# EAGLE library part SFTN01M-05N (library SFTN01M-05N)
Isolated DC/DC Converters - SMD 1W 12Vin 5Vout 20-200mA SMT Unregulated Source: Datasheet <https://www.meanwell.com/webapp/product/search.aspx?prod=SFTN01-N>
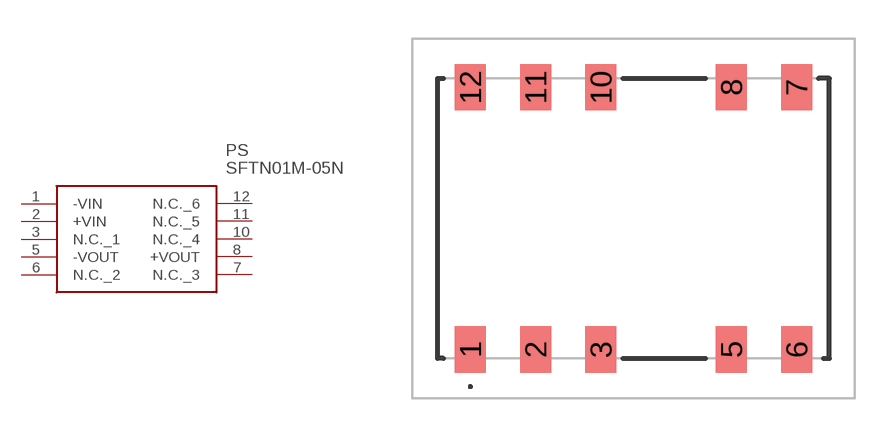
[diagram p0: symbol with the pads of SFTN01M05N; footprint SFTN01M05N]

Designator prefix PS

## SFTN01M-05N (Description: Isolated DC/DC Converters - SMD 1W 12Vin 5Vout 20-200mA SMT Unregulated; Height: 7.6mm; Manufacturer_Name: Mean Well; Manufacturer_Part_Number: SFTN01M-05N; Mouser_Part_Number: 709-SFTN01M-05N; Mouser_Price-Stock: https://www.mouser.co.uk/ProductDetail/MEAN-WELL/SFTN01M-05N?qs=A6eO%252BMLsxmQLvWwJN5Fn%252BQ%3D%3D)  [SFTN01M05N]
1  -VIN
2  +VIN
3  N.C._1
5  -VOUT
6  N.C._2
7  N.C._3
8  +VOUT
10  N.C._4
11  N.C._5
12  N.C._6

## Footprint SFTN01M05N (pad centres in mm)
SFTN01M-05N-2
smd 1.2 x 1.8: 1 -6.35,-5.1; 2 -3.81,-5.1; 3 -1.27,-5.1; 5 3.81,-5.1; 6 6.35,-5.1; 7 6.35,5.1; 8 3.81,5.1; 10 -1.27,5.1; 11 -3.81,5.1; 12 -6.35,5.1